# EAGLE library part CME6005-TCQH (library c-max)
Single and dual band receiver IC WWVB, DCF77, JJY, MSF and HBG
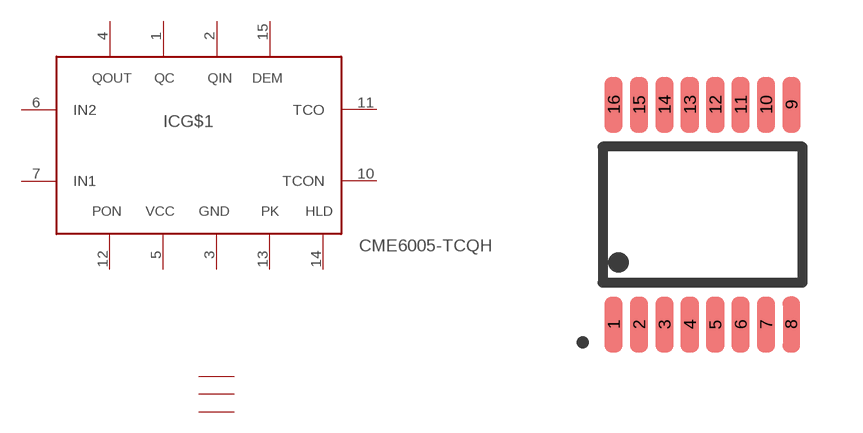
[diagram p0: symbol with the pads of SSO16; footprint SSO16]

Designator prefix IC; gates G$1=CME6005 N=CME6005-NC

## CME6005-TCQH  [SSO16]
1  G$1:QC  in
2  G$1:QIN  in
3  G$1:GND  pwr
4  G$1:QOUT  out
5  G$1:VCC  pwr
6  G$1:IN2  in
7  G$1:IN1  in
8  N:P$1  nc
9  N:P$2  nc
10  G$1:TCON  out
11  G$1:TCO  out
12  G$1:PON  in
13  G$1:PK  out
14  G$1:HLD  in
15  G$1:DEM  out
16  N:P$3  nc

## Footprint SSO16 (pad centres in mm)
SSO16 Package IPC7351 - TSOP65P600X150-16N
smd 0.45 x 1.4: 1 -2.222,-2.75; 2 -1.588,-2.75; 3 -0.952,-2.75; 4 -0.318,-2.75; 5 0.318,-2.75; 6 0.952,-2.75; 7 1.588,-2.75; 9 2.222,2.75; 10 1.588,2.75; 11 0.952,2.75; 12 0.318,2.75; 13 -0.318,2.75; 14 -0.952,2.75; 15 -1.588,2.75; 16 -2.222,2.75
smd 0.44 x 1.4: 8 2.222,-2.75